# EAGLE library part RFD21731 (library zz-upenn)
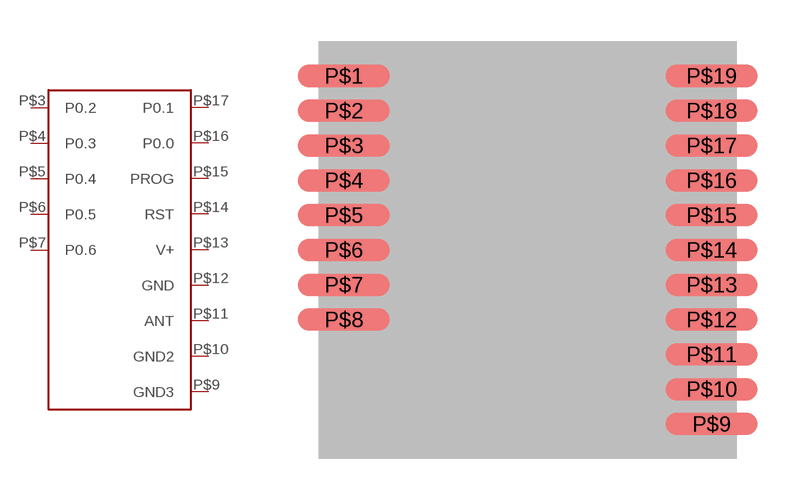
[diagram p16: symbol with the pads of RFD21731; footprint RFD21731]

Designator prefix -

## RFD21731  [RFD21731]
P$3  P0.2
P$4  P0.3
P$5  P0.4
P$6  P0.5
P$7  P0.6
P$9  GND3
P$10  GND2
P$11  ANT
P$12  GND
P$13  V+
P$14  RST
P$15  PROG
P$16  P0.0
P$17  P0.1

## Footprint RFD21731 (pad centres in mm)
smd 3.353 x 0.813: P$1 -6.706,-1.27; P$2 -6.706,-2.54; P$3 -6.706,-3.81; P$4 -6.706,-5.08; P$5 -6.706,-6.35; P$6 -6.706,-7.62; P$7 -6.706,-8.89; P$8 -6.706,-10.16; P$9 6.706,-13.97; P$10 6.706,-12.7; P$11 6.706,-11.43; P$12 6.706,-10.16; P$13 6.706,-8.89; P$14 6.706,-7.62; P$15 6.706,-6.35; P$16 6.706,-5.08; P$17 6.706,-3.81; P$18 6.706,-2.54; P$19 6.706,-1.27